# Altium footprint library Packages.PcbLib: 2 footprints
Each footprint in its own frame and in the unit in brackets; x right, y up, seen from the top. Pads: shape width x height; smd on the part's side, far side on the other; paste and mask are expansions set on the pad; w line width, h text height; cw(c..) or ccw(c..) is an arc to the next point about the centre after c.
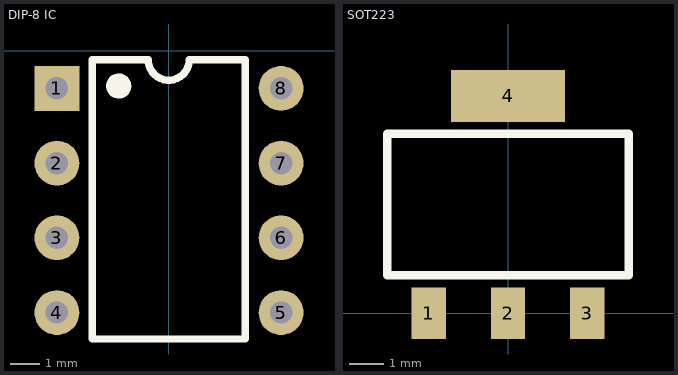
[diagram p0: the footprints below, top view; thin cyan lines are the x and y axes]

## DIP-8 IC [mil]
pads (8):
  rect 60x60 hole 30: 1(-149.61,-50.39)
  round 60 hole 30: 2(-149.61,-150.39) 3(-149.61,-250.39) 4(-149.61,-350.39) 5(150.39,-350.39) 6(150.39,-250.39) 7(150.39,-150.39) 8(150.39,-50.39)
Top Overlay:
  circle w10: c-66.93,-47.24 r11.81
  rectangle: -74.8,-55.12 -59.06,-39.37
  lines w10: -102.36,-385.83 -102.36,-11.81 -27.56,-11.81 ccw(c0,-11.81) 27.56,-11.81 102.36,-11.81 102.36,-385.83 -102.36,-385.83

## SOT223 [mm]
pads (4):
  rect 1x1.5 smd: 1(-2.3,0) 2(0,0) 3(2.3,0)
  rect 3.3x1.5 smd: 4(0,6.3)
Top Overlay:
  lines w0.254: -3.5,1.1 -1.75,1.1 1.75,1.1 3.5,1.1 3.5,5.2 -3.5,5.2 -3.5,1.1